# EAGLE library part MOLEX_SL_22 (library molex-sl-connectors_jw)
Molex SL-Series PCB Header, 22-Pos, 0.1" (2.54mm) Centers
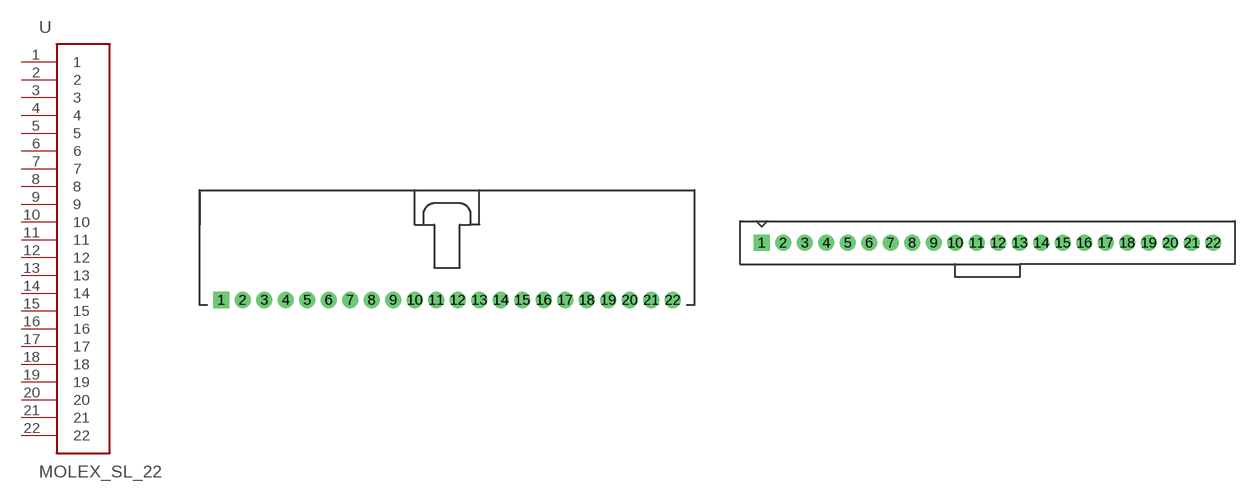
[diagram p16: symbol with the pads of SL_70553_22; footprints SL_70553_22, SL_70543_22]

Designator prefix -

## MOLEX_SL_22-70553  [SL_70553_22]
1  1
2  2
3  3
4  4
5  5
6  6
7  7
8  8
9  9
10  10
11  11
12  12
13  13
14  14
15  15
16  16
17  17
18  18
19  19
20  20
21  21
22  22

## MOLEX_SL_22-70543-74095  [SL_70543_22]
Pads as for SL_70553_22

## MOLEX_SL_22-70541-70545  [SL_70541_22]
Pads as for SL_70553_22

## MOLEX_SL_22-70551  [SL_70551_22]
Pads as for SL_70553_22

## MOLEX_SL_22-70555  [SL_70555_22]
Pads as for SL_70553_22

## MOLEX_SL_22-70634  [SL_70634_22]
Pads as for SL_70553_22

## MOLEX_SL_22-87898  [SL_87898_22]
Pads as for SL_70553_22

## MOLEX_SL_22-74099  [SL_74099_22]
Pads as for SL_70553_22

## Footprint SL_70553_22 (pad centres in mm)
Right-Angle Header w/ Latch (no pegs) 70553-0021 70553-0056 70553-0126 70553-0161
drill 1.1 pad 1.93 square: 1 -26.67,-5.08
drill 1.1 pad 1.93: 2 -24.13,-5.08; 3 -21.59,-5.08; 4 -19.05,-5.08; 5 -16.51,-5.08; 6 -13.97,-5.08; 7 -11.43,-5.08; 8 -8.89,-5.08; 9 -6.35,-5.08; 10 -3.81,-5.08; 11 -1.27,-5.08; 12 1.27,-5.08; 13 3.81,-5.08; 14 6.35,-5.08; 15 8.89,-5.08; 16 11.43,-5.08; 17 13.97,-5.08; 18 16.51,-5.08; 19 19.05,-5.08; 20 21.59,-5.08; 21 24.13,-5.08; 22 26.67,-5.08

## Footprint SL_70543_22 (pad centres in mm)
Vertical Header w/ Latch & Optional Compliant Pins (no pegs) Normal Pins: 70543-0021 70543-0056 70543-0091 70543-0126 70543-0161 70543-0185 70543-0220 70543-0268 70543-0292 70543-0316 Compliant Pins 74095-0022 74095-0052 74095-0082 74095-1052 74095-1082
drill 1.1 pad 1.93 square: 1 -26.67,1.27
drill 1.1 pad 1.93: 2 -24.13,1.27; 3 -21.59,1.27; 4 -19.05,1.27; 5 -16.51,1.27; 6 -13.97,1.27; 7 -11.43,1.27; 8 -8.89,1.27; 9 -6.35,1.27; 10 -3.81,1.27; 11 -1.27,1.27; 12 1.27,1.27; 13 3.81,1.27; 14 6.35,1.27; 15 8.89,1.27; 16 11.43,1.27; 17 13.97,1.27; 18 16.51,1.27; 19 19.05,1.27; 20 21.59,1.27; 21 24.13,1.27; 22 26.67,1.27

## Footprint SL_70541_22 (pad centres in mm)
Vertical Header w/ Latch & Pegs With Split Pegs: 70541-0021 70541-0056 70541-0091 With Tri-Pegs: 70545-0021 70545-0056 70545-0091 70545-3021 70545-3071 70545-3121
drill 1.1 pad 1.93 square: 1 -26.67,1.27
drill 1.1 pad 1.93: 2 -24.13,1.27; 3 -21.59,1.27; 4 -19.05,1.27; 5 -16.51,1.27; 6 -13.97,1.27; 7 -11.43,1.27; 8 -8.89,1.27; 9 -6.35,1.27; 10 -3.81,1.27; 11 -1.27,1.27; 12 1.27,1.27; 13 3.81,1.27; 14 6.35,1.27; 15 8.89,1.27; 16 11.43,1.27; 17 13.97,1.27; 18 16.51,1.27; 19 19.05,1.27; 20 21.59,1.27; 21 24.13,1.27; 22 26.67,1.27
hole 3.404 at -30.734,0.508
hole 3.404 at 30.734,0.508

## Footprint SL_70551_22 (pad centres in mm)
Right-Angle Header w/ Latch & Split Pegs 70551-0021 70551-0056 70551-0091
drill 1.1 pad 1.93 square: 1 -26.67,-5.08
drill 1.1 pad 1.93: 2 -24.13,-5.08; 3 -21.59,-5.08; 4 -19.05,-5.08; 5 -16.51,-5.08; 6 -13.97,-5.08; 7 -11.43,-5.08; 8 -8.89,-5.08; 9 -6.35,-5.08; 10 -3.81,-5.08; 11 -1.27,-5.08; 12 1.27,-5.08; 13 3.81,-5.08; 14 6.35,-5.08; 15 8.89,-5.08; 16 11.43,-5.08; 17 13.97,-5.08; 18 16.51,-5.08; 19 19.05,-5.08; 20 21.59,-5.08; 21 24.13,-5.08; 22 26.67,-5.08
hole 3.404 at -27.94,3.556
hole 3.404 at 27.94,3.556

## Footprint SL_70555_22 (pad centres in mm)
Right-Angle Header w/ Latch & Tri-Pegs 70555-0021 70555-0056 70555-0091 70555-5021
drill 1.1 pad 1.93 square: 1 -26.67,-5.08
drill 1.1 pad 1.93: 2 -24.13,-5.08; 3 -21.59,-5.08; 4 -19.05,-5.08; 5 -16.51,-5.08; 6 -13.97,-5.08; 7 -11.43,-5.08; 8 -8.89,-5.08; 9 -6.35,-5.08; 10 -3.81,-5.08; 11 -1.27,-5.08; 12 1.27,-5.08; 13 3.81,-5.08; 14 6.35,-5.08; 15 8.89,-5.08; 16 11.43,-5.08; 17 13.97,-5.08; 18 16.51,-5.08; 19 19.05,-5.08; 20 21.59,-5.08; 21 24.13,-5.08; 22 26.67,-5.08
hole 3.404 at -28.067,3.556
hole 3.404 at 28.067,3.556

## Footprint SL_70634_22 (pad centres in mm)
SMD Right-Angle Header w/ Latch & PCB Pegs 70634-0021 70634-0056 70634-0091 70634-0126 70634-0161 70634-0196 70634-0222
smd 1.651 x 5.334: 1 -26.67,-7.62; 2 -24.13,-7.62; 3 -21.59,-7.62; 4 -19.05,-7.62; 5 -16.51,-7.62; 6 -13.97,-7.62; 7 -11.43,-7.62; 8 -8.89,-7.62; 9 -6.35,-7.62; 10 -3.81,-7.62; 11 -1.27,-7.62; 12 1.27,-7.62; 13 3.81,-7.62; 14 6.35,-7.62; 15 8.89,-7.62; 16 11.43,-7.62; 17 13.97,-7.62; 18 16.51,-7.62; 19 19.05,-7.62; 20 21.59,-7.62; 21 24.13,-7.62; 22 26.67,-7.62
hole 3.404 at -28.092,3.048
hole 3.404 at 28.067,3.099

## Footprint SL_87898_22 (pad centres in mm)
SMD Vertical Header (no latch or pegs) Package also includes Pick-N-Place Cap Tube packaging w/o Pick-N-Place Cap: 87898-2221 87898-2222 87898-2224 87898-2225 87898-2226 Tube packaging w/ Pick-N-Place Cap: 87898-2231 87898-2232 87898-2234 87898-2235 87898-2236
smd 1.27 x 2.946: 1 -26.67,1.803; 2 -24.13,-1.803; 3 -21.59,1.803; 4 -19.05,-1.803; 5 -16.51,1.803; 6 -13.97,-1.803; 7 -11.43,1.803; 8 -8.89,-1.803; 9 -6.35,1.803; 10 -3.81,-1.803; 11 -1.27,1.803; 12 1.27,-1.803; 13 3.81,1.803; 14 6.35,-1.803; 15 8.89,1.803; 16 11.43,-1.803; 17 13.97,1.803; 18 16.51,-1.803; 19 19.05,1.803; 20 21.59,-1.803; 21 24.13,1.803; 22 26.67,-1.803

## Footprint SL_74099_22 (pad centres in mm)
SMD Vertical Header w/ Latch & PCB Pegs Package also includes Pick-N-Place Cap 74099-0622 74099-0642 74099-0662
smd 1.27 x 3.175: 1 -26.67,-2.108; 2 -24.13,2.108; 3 -21.59,-2.108; 4 -19.05,2.108; 5 -16.51,-2.108; 6 -13.97,2.108; 7 -11.43,-2.108; 8 -8.89,2.108; 9 -6.35,-2.108; 10 -3.81,2.108; 11 -1.27,-2.108; 12 1.27,2.108; 13 3.81,-2.108; 14 6.35,2.108; 15 8.89,-2.108; 16 11.43,2.108; 17 13.97,-2.108; 18 16.51,2.108; 19 19.05,-2.108; 20 21.59,2.108; 21 24.13,-2.108; 22 26.67,2.108